# Altium schematic symbol library WCAP-CSGP.SchLib: 1002 symbols (part 9 of 21)
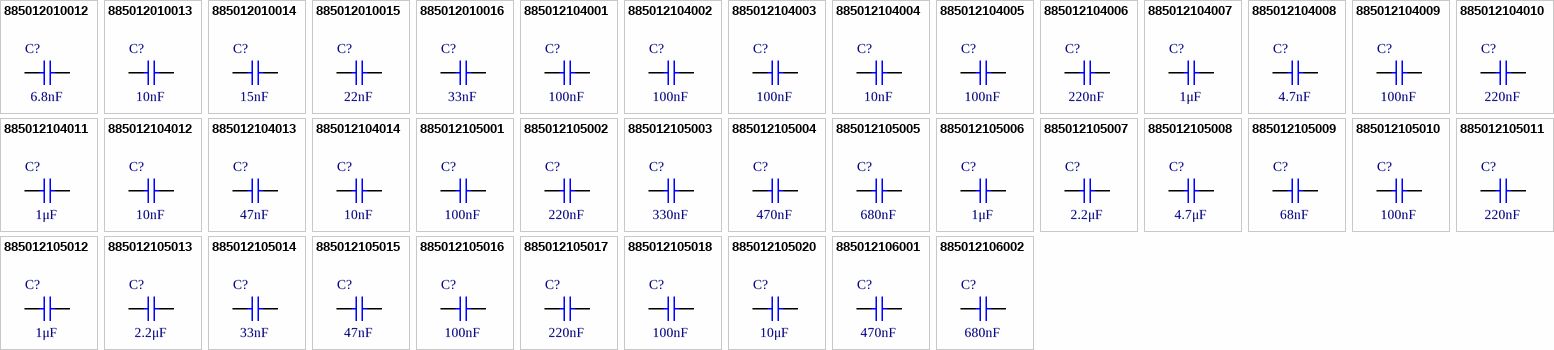
[diagram p33: symbols 885012010012 to 885012106002]

## 885012106002
designator C?, comment 680nF
WCAP-CSGP Multilayer Ceramic Chip Capacitor, General Purpose, size 0603, X5R, 680nF, 6.3V; Manufacturer Part Number: 885012106002; Manufacturer: Wurth Elektronik; Case/Size Code: 0603; Capacitance Tolerance: +/-20%; Dissipation Factor: 10%; Insulation Resistance: 0.2GΩ; Technical Reference: X5R0603684M6R3DFCT10000; Category: Multilayer Ceramic Chip Capacitors; Match Code: WCAP-CSGP; ComponentLink1Description: Website Link; ComponentLink1URL: https://www.we-online.com/redexpert/article/885012106002?ad; ComponentLink2Description: Datasheet Link; ComponentLink2URL: https://www.we-online.com/redexpert/spec/885012106002?ad; Mount: Surface Mount; Min Operating Temperature: -55°C; Max Operating Temperature: 85°C; Packaging: Tape and Reel; Length: 1.6mm; Width: 0.8mm; Height: 0.8mm; Capacitance: 680nF; Ceramic Type: X5R; Rated Voltage (DC): 6.3V
footprint WCAP-CSGP_0603_L1.6W0.8H0.8_Reflow
footprint WCAP-CSGP_0603_L1.6W0.8H0.8_Wave
simulation model 0603_885012106002_680nF
pins: 1, 2

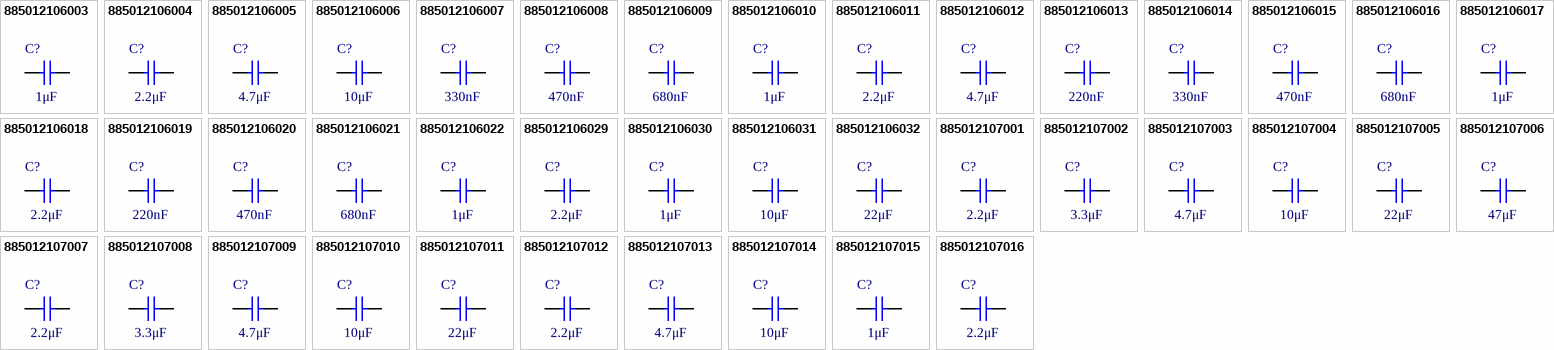
[diagram p10: symbols 885012106003 to 885012107016]

## 885012106003
designator C?, comment 1μF
WCAP-CSGP Multilayer Ceramic Chip Capacitor, General Purpose, size 0603, X5R, 1μF, 6.3V; Manufacturer Part Number: 885012106003; Manufacturer: Wurth Elektronik; Case/Size Code: 0603; Capacitance Tolerance: +/-20%; Dissipation Factor: 10%; Insulation Resistance: 0.1GΩ; Technical Reference: X5R0603105M6R3DFCT10000; Category: Multilayer Ceramic Chip Capacitors; Match Code: WCAP-CSGP; ComponentLink1Description: Website Link; ComponentLink1URL: https://www.we-online.com/redexpert/article/885012106003?ad; ComponentLink2Description: Datasheet Link; ComponentLink2URL: https://www.we-online.com/redexpert/spec/885012106003?ad; Mount: Surface Mount; Min Operating Temperature: -55°C; Max Operating Temperature: 85°C; Packaging: Tape and Reel; Length: 1.6mm; Width: 0.8mm; Height: 0.8mm; Capacitance: 1μF; Ceramic Type: X5R; Rated Voltage (DC): 6.3V
footprint WCAP-CSGP_0603_L1.6W0.8H0.8_Reflow
footprint WCAP-CSGP_0603_L1.6W0.8H0.8_Wave
simulation model 0603_885012106003_1uF
pins: 1, 2

## 885012106004
designator C?, comment 2.2μF
WCAP-CSGP Multilayer Ceramic Chip Capacitor, General Purpose, size 0603, X5R, 2.2μF, 6.3V; Manufacturer Part Number: 885012106004; Manufacturer: Wurth Elektronik; Case/Size Code: 0603; Capacitance Tolerance: +/-20%; Dissipation Factor: 10%; Insulation Resistance: 0.05GΩ; Technical Reference: X5R0603225M6R3DFCT10000; Category: Multilayer Ceramic Chip Capacitors; Match Code: WCAP-CSGP; ComponentLink1Description: Website Link; ComponentLink1URL: https://www.we-online.com/redexpert/article/885012106004?ad; ComponentLink2Description: Datasheet Link; ComponentLink2URL: https://www.we-online.com/redexpert/spec/885012106004?ad; Mount: Surface Mount; Min Operating Temperature: -55°C; Max Operating Temperature: 85°C; Packaging: Tape and Reel; Length: 1.6mm; Width: 0.8mm; Height: 0.8mm; Capacitance: 2.2μF; Ceramic Type: X5R; Rated Voltage (DC): 6.3V
footprint WCAP-CSGP_0603_L1.6W0.8H0.8_Reflow
footprint WCAP-CSGP_0603_L1.6W0.8H0.8_Wave
simulation model 0603_885012106004_2.2uF
pins: 1, 2

## 885012106005
designator C?, comment 4.7μF
WCAP-CSGP Multilayer Ceramic Chip Capacitor, General Purpose, size 0603, X5R, 4.7μF, 6.3V; Manufacturer Part Number: 885012106005; Manufacturer: Wurth Elektronik; Case/Size Code: 0603; Capacitance Tolerance: +/-20%; Dissipation Factor: 10%; Insulation Resistance: 0.02GΩ; Technical Reference: X5R0603475M6R3DFCT10000; Category: Multilayer Ceramic Chip Capacitors; Match Code: WCAP-CSGP; ComponentLink1Description: Website Link; ComponentLink1URL: https://www.we-online.com/redexpert/article/885012106005?ad; ComponentLink2Description: Datasheet Link; ComponentLink2URL: https://www.we-online.com/redexpert/spec/885012106005?ad; Mount: Surface Mount; Min Operating Temperature: -55°C; Max Operating Temperature: 85°C; Packaging: Tape and Reel; Length: 1.6mm; Width: 0.8mm; Height: 0.8mm; Capacitance: 4.7μF; Ceramic Type: X5R; Rated Voltage (DC): 6.3V
footprint WCAP-CSGP_0603_L1.6W0.8H0.8_Reflow
footprint WCAP-CSGP_0603_L1.6W0.8H0.8_Wave
simulation model 0603_885012106005_4.7uF
pins: 1, 2

## 885012106006
designator C?, comment 10μF
WCAP-CSGP Multilayer Ceramic Chip Capacitor, General Purpose, size 0603, X5R, 10μF, 6.3V; Manufacturer Part Number: 885012106006; Manufacturer: Wurth Elektronik; Case/Size Code: 0603; Capacitance Tolerance: +/-20%; Dissipation Factor: 15%; Insulation Resistance: 0.005GΩ; Technical Reference: X5R0603106M6R3DFCT10000; Category: Multilayer Ceramic Chip Capacitors; Match Code: WCAP-CSGP; ComponentLink1Description: Website Link; ComponentLink1URL: https://www.we-online.com/redexpert/article/885012106006?ad; ComponentLink2Description: Datasheet Link; ComponentLink2URL: https://www.we-online.com/redexpert/spec/885012106006?ad; Mount: Surface Mount; Min Operating Temperature: -55°C; Max Operating Temperature: 85°C; Packaging: Tape and Reel; Length: 1.6mm; Width: 0.8mm; Height: 0.8mm; Capacitance: 10μF; Ceramic Type: X5R; Rated Voltage (DC): 6.3V
footprint WCAP-CSGP_0603_L1.6W0.8H0.8_Reflow
footprint WCAP-CSGP_0603_L1.6W0.8H0.8_Wave
simulation model 0603_885012106006_10uF
pins: 1, 2

## 885012106007
designator C?, comment 330nF
WCAP-CSGP Multilayer Ceramic Chip Capacitor, General Purpose, size 0603, X5R, 330nF, 10V; Manufacturer Part Number: 885012106007; Manufacturer: Wurth Elektronik; Case/Size Code: 0603; Capacitance Tolerance: +/-20%; Dissipation Factor: 10%; Insulation Resistance: 1.5GΩ; Technical Reference: X5R0603334M010DFCT10000; Category: Multilayer Ceramic Chip Capacitors; Match Code: WCAP-CSGP; ComponentLink1Description: Website Link; ComponentLink1URL: https://www.we-online.com/redexpert/article/885012106007?ad; ComponentLink2Description: Datasheet Link; ComponentLink2URL: https://www.we-online.com/redexpert/spec/885012106007?ad; Mount: Surface Mount; Min Operating Temperature: -55°C; Max Operating Temperature: 85°C; Packaging: Tape and Reel; Length: 1.6mm; Width: 0.8mm; Height: 0.8mm; Capacitance: 330nF; Ceramic Type: X5R; Rated Voltage (DC): 10V
footprint WCAP-CSGP_0603_L1.6W0.8H0.8_Reflow
footprint WCAP-CSGP_0603_L1.6W0.8H0.8_Wave
simulation model 0603_885012106007_330nF
pins: 1, 2

## 885012106008
designator C?, comment 470nF
WCAP-CSGP Multilayer Ceramic Chip Capacitor, General Purpose, size 0603, X5R, 470nF, 10V; Manufacturer Part Number: 885012106008; Manufacturer: Wurth Elektronik; Case/Size Code: 0603; Capacitance Tolerance: +/-20%; Dissipation Factor: 10%; Insulation Resistance: 0.2GΩ; Technical Reference: X5R0603474M010DFCT10000; Category: Multilayer Ceramic Chip Capacitors; Match Code: WCAP-CSGP; ComponentLink1Description: Website Link; ComponentLink1URL: https://www.we-online.com/redexpert/article/885012106008?ad; ComponentLink2Description: Datasheet Link; ComponentLink2URL: https://www.we-online.com/redexpert/spec/885012106008?ad; Mount: Surface Mount; Min Operating Temperature: -55°C; Max Operating Temperature: 85°C; Packaging: Tape and Reel; Length: 1.6mm; Width: 0.8mm; Height: 0.8mm; Capacitance: 470nF; Ceramic Type: X5R; Rated Voltage (DC): 10V
footprint WCAP-CSGP_0603_L1.6W0.8H0.8_Reflow
footprint WCAP-CSGP_0603_L1.6W0.8H0.8_Wave
simulation model 0603_885012106008_470nF
pins: 1, 2

## 885012106009
designator C?, comment 680nF
WCAP-CSGP Multilayer Ceramic Chip Capacitor, General Purpose, size 0603, X5R, 680nF, 10V; Manufacturer Part Number: 885012106009; Manufacturer: Wurth Elektronik; Case/Size Code: 0603; Capacitance Tolerance: +/-20%; Dissipation Factor: 10%; Insulation Resistance: 0.2GΩ; Technical Reference: X5R0603684M010DFCT10000; Category: Multilayer Ceramic Chip Capacitors; Match Code: WCAP-CSGP; ComponentLink1Description: Website Link; ComponentLink1URL: https://www.we-online.com/redexpert/article/885012106009?ad; ComponentLink2Description: Datasheet Link; ComponentLink2URL: https://www.we-online.com/redexpert/spec/885012106009?ad; Mount: Surface Mount; Min Operating Temperature: -55°C; Max Operating Temperature: 85°C; Packaging: Tape and Reel; Length: 1.6mm; Width: 0.8mm; Height: 0.8mm; Capacitance: 680nF; Ceramic Type: X5R; Rated Voltage (DC): 10V
footprint WCAP-CSGP_0603_L1.6W0.8H0.8_Reflow
footprint WCAP-CSGP_0603_L1.6W0.8H0.8_Wave
simulation model 0603_885012106009_680nF
pins: 1, 2

## 885012106010
designator C?, comment 1μF
WCAP-CSGP Multilayer Ceramic Chip Capacitor, General Purpose, size 0603, X5R, 1μF, 10V; Manufacturer Part Number: 885012106010; Manufacturer: Wurth Elektronik; Case/Size Code: 0603; Capacitance Tolerance: +/-20%; Dissipation Factor: 10%; Insulation Resistance: 0.1GΩ; Technical Reference: X5R0603105M010DFCT10000; Category: Multilayer Ceramic Chip Capacitors; Match Code: WCAP-CSGP; ComponentLink1Description: Website Link; ComponentLink1URL: https://www.we-online.com/redexpert/article/885012106010?ad; ComponentLink2Description: Datasheet Link; ComponentLink2URL: https://www.we-online.com/redexpert/spec/885012106010?ad; Mount: Surface Mount; Min Operating Temperature: -55°C; Max Operating Temperature: 85°C; Packaging: Tape and Reel; Length: 1.6mm; Width: 0.8mm; Height: 0.8mm; Capacitance: 1μF; Ceramic Type: X5R; Rated Voltage (DC): 10V
footprint WCAP-CSGP_0603_L1.6W0.8H0.8_Reflow
footprint WCAP-CSGP_0603_L1.6W0.8H0.8_Wave
simulation model 0603_885012106010_1uF
pins: 1, 2

## 885012106011
designator C?, comment 2.2μF
WCAP-CSGP Multilayer Ceramic Chip Capacitor, General Purpose, size 0603, X5R, 2.2μF, 10V; Manufacturer Part Number: 885012106011; Manufacturer: Wurth Elektronik; Case/Size Code: 0603; Capacitance Tolerance: +/-20%; Dissipation Factor: 10%; Insulation Resistance: 0.05GΩ; Technical Reference: X5R0603225M010DFCT10000; Category: Multilayer Ceramic Chip Capacitors; Match Code: WCAP-CSGP; ComponentLink1Description: Website Link; ComponentLink1URL: https://www.we-online.com/redexpert/article/885012106011?ad; ComponentLink2Description: Datasheet Link; ComponentLink2URL: https://www.we-online.com/redexpert/spec/885012106011?ad; Mount: Surface Mount; Min Operating Temperature: -55°C; Max Operating Temperature: 85°C; Packaging: Tape and Reel; Length: 1.6mm; Width: 0.8mm; Height: 0.8mm; Capacitance: 2.2μF; Ceramic Type: X5R; Rated Voltage (DC): 10V
footprint WCAP-CSGP_0603_L1.6W0.8H0.8_Reflow
footprint WCAP-CSGP_0603_L1.6W0.8H0.8_Wave
simulation model 0603_885012106011_2.2uF
pins: 1, 2

## 885012106012
designator C?, comment 4.7μF
WCAP-CSGP Multilayer Ceramic Chip Capacitor, General Purpose, size 0603, X5R, 4.7μF, 10V; Manufacturer Part Number: 885012106012; Manufacturer: Wurth Elektronik; Case/Size Code: 0603; Capacitance Tolerance: +/-20%; Dissipation Factor: 10%; Insulation Resistance: 0.02GΩ; Technical Reference: X5R0603475M010DFCT10000; Category: Multilayer Ceramic Chip Capacitors; Match Code: WCAP-CSGP; ComponentLink1Description: Website Link; ComponentLink1URL: https://www.we-online.com/redexpert/article/885012106012?ad; ComponentLink2Description: Datasheet Link; ComponentLink2URL: https://www.we-online.com/redexpert/spec/885012106012?ad; Mount: Surface Mount; Min Operating Temperature: -55°C; Max Operating Temperature: 85°C; Packaging: Tape and Reel; Length: 1.6mm; Width: 0.8mm; Height: 0.8mm; Capacitance: 4.7μF; Ceramic Type: X5R; Rated Voltage (DC): 10V
footprint WCAP-CSGP_0603_L1.6W0.8H0.8_Reflow
footprint WCAP-CSGP_0603_L1.6W0.8H0.8_Wave
simulation model 0603_885012106012_4.7uF
pins: 1, 2

## 885012106013
designator C?, comment 220nF
WCAP-CSGP Multilayer Ceramic Chip Capacitor, General Purpose, size 0603, X5R, 220nF, 16V; Manufacturer Part Number: 885012106013; Manufacturer: Wurth Elektronik; Case/Size Code: 0603; Capacitance Tolerance: +/-20%; Dissipation Factor: 5%; Insulation Resistance: 2.3GΩ; Technical Reference: X5R0603224M016DFCT10000; Category: Multilayer Ceramic Chip Capacitors; Match Code: WCAP-CSGP; ComponentLink1Description: Website Link; ComponentLink1URL: https://www.we-online.com/redexpert/article/885012106013?ad; ComponentLink2Description: Datasheet Link; ComponentLink2URL: https://www.we-online.com/redexpert/spec/885012106013?ad; Mount: Surface Mount; Min Operating Temperature: -55°C; Max Operating Temperature: 85°C; Packaging: Tape and Reel; Length: 1.6mm; Width: 0.8mm; Height: 0.8mm; Capacitance: 220nF; Ceramic Type: X5R; Rated Voltage (DC): 16V
footprint WCAP-CSGP_0603_L1.6W0.8H0.8_Reflow
footprint WCAP-CSGP_0603_L1.6W0.8H0.8_Wave
simulation model 0603_885012106013_220nF
pins: 1, 2

## 885012106014
designator C?, comment 330nF
WCAP-CSGP Multilayer Ceramic Chip Capacitor, General Purpose, size 0603, X5R, 330nF, 16V; Manufacturer Part Number: 885012106014; Manufacturer: Wurth Elektronik; Case/Size Code: 0603; Capacitance Tolerance: +/-20%; Dissipation Factor: 5%; Insulation Resistance: 1.5GΩ; Technical Reference: X5R0603334M016DFCT10000; Category: Multilayer Ceramic Chip Capacitors; Match Code: WCAP-CSGP; ComponentLink1Description: Website Link; ComponentLink1URL: https://www.we-online.com/redexpert/article/885012106014?ad; ComponentLink2Description: Datasheet Link; ComponentLink2URL: https://www.we-online.com/redexpert/spec/885012106014?ad; Mount: Surface Mount; Min Operating Temperature: -55°C; Max Operating Temperature: 85°C; Packaging: Tape and Reel; Length: 1.6mm; Width: 0.8mm; Height: 0.8mm; Capacitance: 330nF; Ceramic Type: X5R; Rated Voltage (DC): 16V
footprint WCAP-CSGP_0603_L1.6W0.8H0.8_Reflow
footprint WCAP-CSGP_0603_L1.6W0.8H0.8_Wave
simulation model 0603_885012106014_330nF
pins: 1, 2

## 885012106015
designator C?, comment 470nF
WCAP-CSGP Multilayer Ceramic Chip Capacitor, General Purpose, size 0603, X5R, 470nF, 16V; Manufacturer Part Number: 885012106015; Manufacturer: Wurth Elektronik; Case/Size Code: 0603; Capacitance Tolerance: +/-20%; Dissipation Factor: 5%; Insulation Resistance: 1.1GΩ; Technical Reference: X5R0603474M016DFCT10000; Category: Multilayer Ceramic Chip Capacitors; Match Code: WCAP-CSGP; ComponentLink1Description: Website Link; ComponentLink1URL: https://www.we-online.com/redexpert/article/885012106015?ad; ComponentLink2Description: Datasheet Link; ComponentLink2URL: https://www.we-online.com/redexpert/spec/885012106015?ad; Mount: Surface Mount; Min Operating Temperature: -55°C; Max Operating Temperature: 85°C; Packaging: Tape and Reel; Length: 1.6mm; Width: 0.8mm; Height: 0.8mm; Capacitance: 470nF; Ceramic Type: X5R; Rated Voltage (DC): 16V
footprint WCAP-CSGP_0603_L1.6W0.8H0.8_Reflow
footprint WCAP-CSGP_0603_L1.6W0.8H0.8_Wave
simulation model 0603_885012106015_470nF
pins: 1, 2

## 885012106016
designator C?, comment 680nF
WCAP-CSGP Multilayer Ceramic Chip Capacitor, General Purpose, size 0603, X5R, 680nF, 16V; Manufacturer Part Number: 885012106016; Manufacturer: Wurth Elektronik; Case/Size Code: 0603; Capacitance Tolerance: +/-20%; Dissipation Factor: 10%; Insulation Resistance: 0.7GΩ; Technical Reference: X5R0603684M016DFCT10000; Category: Multilayer Ceramic Chip Capacitors; Match Code: WCAP-CSGP; ComponentLink1Description: Website Link; ComponentLink1URL: https://www.we-online.com/redexpert/article/885012106016?ad; ComponentLink2Description: Datasheet Link; ComponentLink2URL: https://www.we-online.com/redexpert/spec/885012106016?ad; Mount: Surface Mount; Min Operating Temperature: -55°C; Max Operating Temperature: 85°C; Packaging: Tape and Reel; Length: 1.6mm; Width: 0.8mm; Height: 0.8mm; Capacitance: 680nF; Ceramic Type: X5R; Rated Voltage (DC): 16V
footprint WCAP-CSGP_0603_L1.6W0.8H0.8_Reflow
footprint WCAP-CSGP_0603_L1.6W0.8H0.8_Wave
simulation model 0603_885012106016_680nF
pins: 1, 2

## 885012106017
designator C?, comment 1μF
WCAP-CSGP Multilayer Ceramic Chip Capacitor, General Purpose, size 0603, X5R, 1μF, 16V; Manufacturer Part Number: 885012106017; Manufacturer: Wurth Elektronik; Case/Size Code: 0603; Capacitance Tolerance: +/-20%; Dissipation Factor: 10%; Insulation Resistance: 0.1GΩ; Technical Reference: X5R0603105M016DFCT10000; Category: Multilayer Ceramic Chip Capacitors; Match Code: WCAP-CSGP; ComponentLink1Description: Website Link; ComponentLink1URL: https://www.we-online.com/redexpert/article/885012106017?ad; ComponentLink2Description: Datasheet Link; ComponentLink2URL: https://www.we-online.com/redexpert/spec/885012106017?ad; Mount: Surface Mount; Min Operating Temperature: -55°C; Max Operating Temperature: 85°C; Packaging: Tape and Reel; Length: 1.6mm; Width: 0.8mm; Height: 0.8mm; Capacitance: 1μF; Ceramic Type: X5R; Rated Voltage (DC): 16V
footprint WCAP-CSGP_0603_L1.6W0.8H0.8_Reflow
footprint WCAP-CSGP_0603_L1.6W0.8H0.8_Wave
simulation model 0603_885012106017_1uF
pins: 1, 2

## 885012106018
designator C?, comment 2.2μF
WCAP-CSGP Multilayer Ceramic Chip Capacitor, General Purpose, size 0603, X5R, 2.2μF, 16V; Manufacturer Part Number: 885012106018; Manufacturer: Wurth Elektronik; Case/Size Code: 0603; Capacitance Tolerance: +/-20%; Dissipation Factor: 10%; Insulation Resistance: 0.05GΩ; Technical Reference: X5R0603225M016DFCT10000; Category: Multilayer Ceramic Chip Capacitors; Match Code: WCAP-CSGP; ComponentLink1Description: Website Link; ComponentLink1URL: https://www.we-online.com/redexpert/article/885012106018?ad; ComponentLink2Description: Datasheet Link; ComponentLink2URL: https://www.we-online.com/redexpert/spec/885012106018?ad; Mount: Surface Mount; Min Operating Temperature: -55°C; Max Operating Temperature: 85°C; Packaging: Tape and Reel; Length: 1.6mm; Width: 0.8mm; Height: 0.8mm; Capacitance: 2.2μF; Ceramic Type: X5R; Rated Voltage (DC): 16V
footprint WCAP-CSGP_0603_L1.6W0.8H0.8_Reflow
footprint WCAP-CSGP_0603_L1.6W0.8H0.8_Wave
simulation model 0603_885012106018_2.2uF
pins: 1, 2

## 885012106019
designator C?, comment 220nF
WCAP-CSGP Multilayer Ceramic Chip Capacitor, General Purpose, size 0603, X5R, 220nF, 25V; Manufacturer Part Number: 885012106019; Manufacturer: Wurth Elektronik; Case/Size Code: 0603; Capacitance Tolerance: +/-20%; Dissipation Factor: 3.5%; Insulation Resistance: 2.3GΩ; Technical Reference: X5R0603224M025DFCT10000; Category: Multilayer Ceramic Chip Capacitors; Match Code: WCAP-CSGP; ComponentLink1Description: Website Link; ComponentLink1URL: https://www.we-online.com/redexpert/article/885012106019?ad; ComponentLink2Description: Datasheet Link; ComponentLink2URL: https://www.we-online.com/redexpert/spec/885012106019?ad; Mount: Surface Mount; Min Operating Temperature: -55°C; Max Operating Temperature: 85°C; Packaging: Tape and Reel; Length: 1.6mm; Width: 0.8mm; Height: 0.8mm; Capacitance: 220nF; Ceramic Type: X5R; Rated Voltage (DC): 25V
footprint WCAP-CSGP_0603_L1.6W0.8H0.8_Reflow
footprint WCAP-CSGP_0603_L1.6W0.8H0.8_Wave
simulation model 0603_885012106019_220nF
pins: 1, 2

## 885012106020
designator C?, comment 470nF
WCAP-CSGP Multilayer Ceramic Chip Capacitor, General Purpose, size 0603, X5R, 470nF, 25V; Manufacturer Part Number: 885012106020; Manufacturer: Wurth Elektronik; Case/Size Code: 0603; Capacitance Tolerance: +/-20%; Dissipation Factor: 10%; Insulation Resistance: 1.1GΩ; Technical Reference: X5R0603474M025DFCT10000; Category: Multilayer Ceramic Chip Capacitors; Match Code: WCAP-CSGP; ComponentLink1Description: Website Link; ComponentLink1URL: https://www.we-online.com/redexpert/article/885012106020?ad; ComponentLink2Description: Datasheet Link; ComponentLink2URL: https://www.we-online.com/redexpert/spec/885012106020?ad; Mount: Surface Mount; Min Operating Temperature: -55°C; Max Operating Temperature: 85°C; Packaging: Tape and Reel; Length: 1.6mm; Width: 0.8mm; Height: 0.8mm; Capacitance: 470nF; Ceramic Type: X5R; Rated Voltage (DC): 25V
footprint WCAP-CSGP_0603_L1.6W0.8H0.8_Reflow
footprint WCAP-CSGP_0603_L1.6W0.8H0.8_Wave
simulation model 0603_885012106020_470nF
pins: 1, 2

## 885012106021
designator C?, comment 680nF
WCAP-CSGP Multilayer Ceramic Chip Capacitor, General Purpose, size 0603, X5R, 680nF, 25V; Manufacturer Part Number: 885012106021; Manufacturer: Wurth Elektronik; Case/Size Code: 0603; Capacitance Tolerance: +/-20%; Dissipation Factor: 10%; Insulation Resistance: 0.7GΩ; Technical Reference: X5R0603684M025DFCT10000; Category: Multilayer Ceramic Chip Capacitors; Match Code: WCAP-CSGP; ComponentLink1Description: Website Link; ComponentLink1URL: https://www.we-online.com/redexpert/article/885012106021?ad; ComponentLink2Description: Datasheet Link; ComponentLink2URL: https://www.we-online.com/redexpert/spec/885012106021?ad; Mount: Surface Mount; Min Operating Temperature: -55°C; Max Operating Temperature: 85°C; Packaging: Tape and Reel; Length: 1.6mm; Width: 0.8mm; Height: 0.8mm; Capacitance: 680nF; Ceramic Type: X5R; Rated Voltage (DC): 25V
footprint WCAP-CSGP_0603_L1.6W0.8H0.8_Reflow
footprint WCAP-CSGP_0603_L1.6W0.8H0.8_Wave
simulation model 0603_885012106021_680nF
pins: 1, 2

## 885012106022
designator C?, comment 1μF
WCAP-CSGP Multilayer Ceramic Chip Capacitor, General Purpose, size 0603, X5R, 1μF, 25V; Manufacturer Part Number: 885012106022; Manufacturer: Wurth Elektronik; Case/Size Code: 0603; Capacitance Tolerance: +/-20%; Dissipation Factor: 10%; Insulation Resistance: 0.5GΩ; Technical Reference: X5R0603105M025DFCT10000; Category: Multilayer Ceramic Chip Capacitors; Match Code: WCAP-CSGP; ComponentLink1Description: Website Link; ComponentLink1URL: https://www.we-online.com/redexpert/article/885012106022?ad; ComponentLink2Description: Datasheet Link; ComponentLink2URL: https://www.we-online.com/redexpert/spec/885012106022?ad; Mount: Surface Mount; Min Operating Temperature: -55°C; Max Operating Temperature: 85°C; Packaging: Tape and Reel; Length: 1.6mm; Width: 0.8mm; Height: 0.8mm; Capacitance: 1μF; Ceramic Type: X5R; Rated Voltage (DC): 25V
footprint WCAP-CSGP_0603_L1.6W0.8H0.8_Reflow
footprint WCAP-CSGP_0603_L1.6W0.8H0.8_Wave
simulation model 0603_885012106022_1uF
pins: 1, 2

## 885012106029
designator C?, comment 2.2μF
WCAP-CSGP Multilayer Ceramic Chip Capacitor, General Purpose, size 0603, X5R, 2.2μF, 16V; Manufacturer Part Number: 885012106029; Manufacturer: Wurth Elektronik; Case/Size Code: 0603; Capacitance Tolerance: +/-10%; Dissipation Factor: 10%; Insulation Resistance: 0.05GΩ; Technical Reference: X5R0603225K016DFCT10000; Category: Multilayer Ceramic Chip Capacitors; Match Code: WCAP-CSGP; ComponentLink1Description: Website Link; ComponentLink1URL: https://www.we-online.com/redexpert/article/885012106029?ad; ComponentLink2Description: Datasheet Link; ComponentLink2URL: https://www.we-online.com/redexpert/spec/885012106029?ad; Mount: Surface Mount; Min Operating Temperature: -55°C; Max Operating Temperature: 85°C; Packaging: Tape and Reel; Length: 1.6mm; Width: 0.8mm; Height: 0.8mm; Capacitance: 2.2μF; Ceramic Type: X5R; Rated Voltage (DC): 16V
footprint WCAP-CSGP_0603_L1.6W0.8H0.8_Reflow
footprint WCAP-CSGP_0603_L1.6W0.8H0.8_Wave
simulation model 0603_885012106029_2.2uF
pins: 1, 2

## 885012106030
designator C?, comment 1μF
WCAP-CSGP Multilayer Ceramic Chip Capacitor, General Purpose, size 0603, X5R, 1μF, 25V; Manufacturer Part Number: 885012106030; Manufacturer: Wurth Elektronik; Case/Size Code: 0603; Capacitance Tolerance: +/-10%; Dissipation Factor: 10%; Insulation Resistance: 0.5GΩ; Technical Reference: X5R0603105K025DFCT10000; Category: Multilayer Ceramic Chip Capacitors; Match Code: WCAP-CSGP; ComponentLink1Description: Website Link; ComponentLink1URL: https://www.we-online.com/redexpert/article/885012106030?ad; ComponentLink2Description: Datasheet Link; ComponentLink2URL: https://www.we-online.com/redexpert/spec/885012106030?ad; Mount: Surface Mount; Min Operating Temperature: -55°C; Max Operating Temperature: 85°C; Packaging: Tape and Reel; Length: 1.6mm; Width: 0.8mm; Height: 0.8mm; Capacitance: 1μF; Ceramic Type: X5R; Rated Voltage (DC): 25V
footprint WCAP-CSGP_0603_L1.6W0.8H0.8_Reflow
footprint WCAP-CSGP_0603_L1.6W0.8H0.8_Wave
simulation model 0603_885012106030_1uF
pins: 1, 2

## 885012106031
designator C?, comment 10μF
WCAP-CSGP Multilayer Ceramic Chip Capacitor, General Purpose, size 0603, X5R, 10μF, 25V; Manufacturer Part Number: 885012106031; Manufacturer: Wurth Elektronik; Case/Size Code: 0603; Capacitance Tolerance: +/20%; Dissipation Factor: 20%; Insulation Resistance: 0.01GΩ; Technical Reference: X5R0603106M025DFCT10000; Category: Multilayer Ceramic Chip Capacitors; Match Code: WCAP-CSGP; ComponentLink1Description: Website Link; ComponentLink1URL: https://www.we-online.com/redexpert/article/885012106031?ad; ComponentLink2Description: Datasheet Link; ComponentLink2URL: https://www.we-online.com/redexpert/spec/885012106031?ad; Mount: Surface Mount; Min Operating Temperature: -55°C; Max Operating Temperature: 85°C; Packaging: Tape and Reel; Length: 1.6mm; Width: 0.8mm; Height: 0.8mm; Capacitance: 10μF; Ceramic Type: X5R; Rated Voltage (DC): 25V
footprint WCAP-CSGP_0603_L1.6W0.8H0.8_Reflow
footprint WCAP-CSGP_0603_L1.6W0.8H0.8_Wave
simulation model 0603_885012106031_10uF
pins: 1, 2

## 885012106032
designator C?, comment 22μF
WCAP-CSGP Multilayer Ceramic Chip Capacitor, General Purpose, size 0603, X5R Class II, 22μF, 10V; Manufacturer Part Number: 885012106032; Manufacturer: Wurth Elektronik; Case/Size Code: 0603; Capacitance Tolerance: +/-20%; Dissipation Factor: 20%; Insulation Resistance: 0.002GΩ; Technical Reference: X5R0603226M010DFCT10000; Category: Multilayer Ceramic Chip Capacitors; Match Code: WCAP-CSGP; ComponentLink1Description: Website Link; ComponentLink1URL: https://www.we-online.com/redexpert/article/885012106032?ad; ComponentLink2Description: Datasheet Link; ComponentLink2URL: https://www.we-online.com/redexpert/spec/885012106032?ad; Mount: Surface Mount; Min Operating Temperature: -55°C; Max Operating Temperature: 85°C; Packaging: Tape and Reel; Length: 1.6mm; Width: 0.8mm; Height: 0.8mm; Capacitance: 22μF; Ceramic Type: X5R Class II; Rated Voltage (DC): 10V
footprint WCAP-CSGP_0603_L1.6W0.8H0.8_Reflow
footprint WCAP-CSGP_0603_L1.6W0.8H0.8_Wave
pins: 1, 2

## 885012107001
designator C?, comment 2.2μF
WCAP-CSGP Multilayer Ceramic Chip Capacitor, General Purpose, size 0805, X5R, 2.2μF, 6.3V; Manufacturer Part Number: 885012107001; Manufacturer: Wurth Elektronik; Case/Size Code: 0805; Capacitance Tolerance: +/-20%; Dissipation Factor: 10%; Insulation Resistance: 0.05GΩ; Technical Reference: X5R0805225M6R3DFCT10000; Category: Multilayer Ceramic Chip Capacitors; Match Code: WCAP-CSGP; ComponentLink1Description: Website Link; ComponentLink1URL: https://www.we-online.com/redexpert/article/885012107001?ad; ComponentLink2Description: Datasheet Link; ComponentLink2URL: https://www.we-online.com/redexpert/spec/885012107001?ad; Mount: Surface Mount; Min Operating Temperature: -55°C; Max Operating Temperature: 85°C; Packaging: Tape and Reel; Length: 2mm; Width: 1.25mm; Height: 1.25mm; Capacitance: 2.2μF; Ceramic Type: X5R; Rated Voltage (DC): 6.3V
footprint WCAP-CSGP_0805_L2W1.25H1.25
simulation model 0805_885012107001_2.2uF
pins: 1, 2

## 885012107002
designator C?, comment 3.3μF
WCAP-CSGP Multilayer Ceramic Chip Capacitor, General Purpose, size 0805, X5R, 3.3μF, 6.3V; Manufacturer Part Number: 885012107002; Manufacturer: Wurth Elektronik; Case/Size Code: 0805; Capacitance Tolerance: +/-20%; Dissipation Factor: 10%; Insulation Resistance: 0.03GΩ; Technical Reference: X5R0805335M6R3DFCT10000; Category: Multilayer Ceramic Chip Capacitors; Match Code: WCAP-CSGP; ComponentLink1Description: Website Link; ComponentLink1URL: https://www.we-online.com/redexpert/article/885012107002?ad; ComponentLink2Description: Datasheet Link; ComponentLink2URL: https://www.we-online.com/redexpert/spec/885012107002?ad; Mount: Surface Mount; Min Operating Temperature: -55°C; Max Operating Temperature: 85°C; Packaging: Tape and Reel; Length: 2mm; Width: 1.25mm; Height: 1.25mm; Capacitance: 3.3μF; Ceramic Type: X5R; Rated Voltage (DC): 6.3V
footprint WCAP-CSGP_0805_L2W1.25H1.25
simulation model 0805_885012107002_3.3uF
pins: 1, 2

## 885012107003
designator C?, comment 4.7μF
WCAP-CSGP Multilayer Ceramic Chip Capacitor, General Purpose, size 0805, X5R, 4.7μF, 6.3V; Manufacturer Part Number: 885012107003; Manufacturer: Wurth Elektronik; Case/Size Code: 0805; Capacitance Tolerance: +/-20%; Dissipation Factor: 15%; Insulation Resistance: 0.02GΩ; Technical Reference: X5R0805475M6R3DFCT10000; Category: Multilayer Ceramic Chip Capacitors; Match Code: WCAP-CSGP; ComponentLink1Description: Website Link; ComponentLink1URL: https://www.we-online.com/redexpert/article/885012107003?ad; ComponentLink2Description: Datasheet Link; ComponentLink2URL: https://www.we-online.com/redexpert/spec/885012107003?ad; Mount: Surface Mount; Min Operating Temperature: -55°C; Max Operating Temperature: 85°C; Packaging: Tape and Reel; Length: 2mm; Width: 1.25mm; Height: 1.25mm; Capacitance: 4.7μF; Ceramic Type: X5R; Rated Voltage (DC): 6.3V
footprint WCAP-CSGP_0805_L2W1.25H1.25
simulation model 0805_885012107003_4.7uF
pins: 1, 2

## 885012107004
designator C?, comment 10μF
WCAP-CSGP Multilayer Ceramic Chip Capacitor, General Purpose, size 0805, X5R, 10μF, 6.3V; Manufacturer Part Number: 885012107004; Manufacturer: Wurth Elektronik; Case/Size Code: 0805; Capacitance Tolerance: +/-20%; Dissipation Factor: 15%; Insulation Resistance: 0.01GΩ; Technical Reference: X5R0805106M6R3DFCT10000; Category: Multilayer Ceramic Chip Capacitors; Match Code: WCAP-CSGP; ComponentLink1Description: Website Link; ComponentLink1URL: https://www.we-online.com/redexpert/article/885012107004?ad; ComponentLink2Description: Datasheet Link; ComponentLink2URL: https://www.we-online.com/redexpert/spec/885012107004?ad; Mount: Surface Mount; Min Operating Temperature: -55°C; Max Operating Temperature: 85°C; Packaging: Tape and Reel; Length: 2mm; Width: 1.25mm; Height: 1.25mm; Capacitance: 10μF; Ceramic Type: X5R; Rated Voltage (DC): 6.3V
footprint WCAP-CSGP_0805_L2W1.25H1.25
simulation model 0805_885012107004_10uF
pins: 1, 2

## 885012107005
designator C?, comment 22μF
WCAP-CSGP Multilayer Ceramic Chip Capacitor, General Purpose, size 0805, X5R, 22μF, 6.3V; Manufacturer Part Number: 885012107005; Manufacturer: Wurth Elektronik; Case/Size Code: 0805; Capacitance Tolerance: +/-20%; Dissipation Factor: 15%; Insulation Resistance: 0.005GΩ; Technical Reference: X5R0805226M6R3DFCT10000; Category: Multilayer Ceramic Chip Capacitors; Match Code: WCAP-CSGP; ComponentLink1Description: Website Link; ComponentLink1URL: https://www.we-online.com/redexpert/article/885012107005?ad; ComponentLink2Description: Datasheet Link; ComponentLink2URL: https://www.we-online.com/redexpert/spec/885012107005?ad; Mount: Surface Mount; Min Operating Temperature: -55°C; Max Operating Temperature: 85°C; Packaging: Tape and Reel; Length: 2mm; Width: 1.25mm; Height: 1.25mm; Capacitance: 22μF; Ceramic Type: X5R; Rated Voltage (DC): 6.3V
footprint WCAP-CSGP_0805_L2W1.25H1.25
simulation model 0805_885012107005_22uF
pins: 1, 2

## 885012107006
designator C?, comment 47μF
WCAP-CSGP Multilayer Ceramic Chip Capacitor, General Purpose, size 0805, X5R, 47μF, 6.3V; Manufacturer Part Number: 885012107006; Manufacturer: Wurth Elektronik; Case/Size Code: 0805; Capacitance Tolerance: +/-20%; Dissipation Factor: 10%; Insulation Resistance: 0.002GΩ; Technical Reference: X5R0805476M6R3DFCT10000; Category: Multilayer Ceramic Chip Capacitors; Match Code: WCAP-CSGP; ComponentLink1Description: Website Link; ComponentLink1URL: https://www.we-online.com/redexpert/article/885012107006?ad; ComponentLink2Description: Datasheet Link; ComponentLink2URL: https://www.we-online.com/redexpert/spec/885012107006?ad; Mount: Surface Mount; Min Operating Temperature: -55°C; Max Operating Temperature: 85°C; Packaging: Tape and Reel; Length: 2mm; Width: 1.25mm; Height: 1.25mm; Capacitance: 47μF; Ceramic Type: X5R; Rated Voltage (DC): 6.3V
footprint WCAP-CSGP_0805_L2W1.25H1.25
simulation model 0805_885012107006_47uF
pins: 1, 2

## 885012107007
designator C?, comment 2.2μF
WCAP-CSGP Multilayer Ceramic Chip Capacitor, General Purpose, size 0805, X5R, 2.2μF, 10V; Manufacturer Part Number: 885012107007; Manufacturer: Wurth Elektronik; Case/Size Code: 0805; Capacitance Tolerance: +/-20%; Dissipation Factor: 10%; Insulation Resistance: 0.05GΩ; Technical Reference: X5R0805225M010DFCT10000; Category: Multilayer Ceramic Chip Capacitors; Match Code: WCAP-CSGP; ComponentLink1Description: Website Link; ComponentLink1URL: https://www.we-online.com/redexpert/article/885012107007?ad; ComponentLink2Description: Datasheet Link; ComponentLink2URL: https://www.we-online.com/redexpert/spec/885012107007?ad; Mount: Surface Mount; Min Operating Temperature: -55°C; Max Operating Temperature: 85°C; Packaging: Tape and Reel; Length: 2mm; Width: 1.25mm; Height: 1.25mm; Capacitance: 2.2μF; Ceramic Type: X5R; Rated Voltage (DC): 10V
footprint WCAP-CSGP_0805_L2W1.25H1.25
simulation model 0805_885012107007_2.2uF
pins: 1, 2

## 885012107008
designator C?, comment 3.3μF
WCAP-CSGP Multilayer Ceramic Chip Capacitor, General Purpose, size 0805, X5R, 3.3μF, 10V; Manufacturer Part Number: 885012107008; Manufacturer: Wurth Elektronik; Case/Size Code: 0805; Capacitance Tolerance: +/-20%; Dissipation Factor: 10%; Insulation Resistance: 0.03GΩ; Technical Reference: X5R0805335M010DFCT10000; Category: Multilayer Ceramic Chip Capacitors; Match Code: WCAP-CSGP; ComponentLink1Description: Website Link; ComponentLink1URL: https://www.we-online.com/redexpert/article/885012107008?ad; ComponentLink2Description: Datasheet Link; ComponentLink2URL: https://www.we-online.com/redexpert/spec/885012107008?ad; Mount: Surface Mount; Min Operating Temperature: -55°C; Max Operating Temperature: 85°C; Packaging: Tape and Reel; Length: 2mm; Width: 1.25mm; Height: 1.25mm; Capacitance: 3.3μF; Ceramic Type: X5R; Rated Voltage (DC): 10V
footprint WCAP-CSGP_0805_L2W1.25H1.25
simulation model 0805_885012107008_3.3uF
pins: 1, 2

## 885012107009
designator C?, comment 4.7μF
WCAP-CSGP Multilayer Ceramic Chip Capacitor, General Purpose, size 0805, X5R, 4.7μF, 10V; Manufacturer Part Number: 885012107009; Manufacturer: Wurth Elektronik; Case/Size Code: 0805; Capacitance Tolerance: +/-20%; Dissipation Factor: 10%; Insulation Resistance: 0.02GΩ; Technical Reference: X5R0805475M010DFCT10000; Category: Multilayer Ceramic Chip Capacitors; Match Code: WCAP-CSGP; ComponentLink1Description: Website Link; ComponentLink1URL: https://www.we-online.com/redexpert/article/885012107009?ad; ComponentLink2Description: Datasheet Link; ComponentLink2URL: https://www.we-online.com/redexpert/spec/885012107009?ad; Mount: Surface Mount; Min Operating Temperature: -55°C; Max Operating Temperature: 85°C; Packaging: Tape and Reel; Length: 2mm; Width: 1.25mm; Height: 1.25mm; Capacitance: 4.7μF; Ceramic Type: X5R; Rated Voltage (DC): 10V
footprint WCAP-CSGP_0805_L2W1.25H1.25
simulation model 0805_885012107009_4.7uF
pins: 1, 2

## 885012107010
designator C?, comment 10μF
WCAP-CSGP Multilayer Ceramic Chip Capacitor, General Purpose, size 0805, X5R, 10μF, 10V; Manufacturer Part Number: 885012107010; Manufacturer: Wurth Elektronik; Case/Size Code: 0805; Capacitance Tolerance: +/-20%; Dissipation Factor: 10%; Insulation Resistance: 0.01GΩ; Technical Reference: X5R0805106M010DFCT10000; Category: Multilayer Ceramic Chip Capacitors; Match Code: WCAP-CSGP; ComponentLink1Description: Website Link; ComponentLink1URL: https://www.we-online.com/redexpert/article/885012107010?ad; ComponentLink2Description: Datasheet Link; ComponentLink2URL: https://www.we-online.com/redexpert/spec/885012107010?ad; Mount: Surface Mount; Min Operating Temperature: -55°C; Max Operating Temperature: 85°C; Packaging: Tape and Reel; Length: 2mm; Width: 1.25mm; Height: 1.25mm; Capacitance: 10μF; Ceramic Type: X5R; Rated Voltage (DC): 10V
footprint WCAP-CSGP_0805_L2W1.25H1.25
simulation model 0805_885012107010_10uF
pins: 1, 2

## 885012107011
designator C?, comment 22μF
WCAP-CSGP Multilayer Ceramic Chip Capacitor, General Purpose, size 0805, X5R, 22μF, 10V; Manufacturer Part Number: 885012107011; Manufacturer: Wurth Elektronik; Case/Size Code: 0805; Capacitance Tolerance: +/-20%; Dissipation Factor: 10%; Insulation Resistance: 0.005GΩ; Technical Reference: X5R0805226M010DFCT10000; Category: Multilayer Ceramic Chip Capacitors; Match Code: WCAP-CSGP; ComponentLink1Description: Website Link; ComponentLink1URL: https://www.we-online.com/redexpert/article/885012107011?ad; ComponentLink2Description: Datasheet Link; ComponentLink2URL: https://www.we-online.com/redexpert/spec/885012107011?ad; Mount: Surface Mount; Min Operating Temperature: -55°C; Max Operating Temperature: 85°C; Packaging: Tape and Reel; Length: 2mm; Width: 1.25mm; Height: 1.25mm; Capacitance: 22μF; Ceramic Type: X5R; Rated Voltage (DC): 10V
footprint WCAP-CSGP_0805_L2W1.25H1.25
simulation model 0805_885012107011_22uF
pins: 1, 2

## 885012107012
designator C?, comment 2.2μF
WCAP-CSGP Multilayer Ceramic Chip Capacitor, General Purpose, size 0805, X5R, 2.2μF, 16V; Manufacturer Part Number: 885012107012; Manufacturer: Wurth Elektronik; Case/Size Code: 0805; Capacitance Tolerance: +/-20%; Dissipation Factor: 10%; Insulation Resistance: 0.05GΩ; Technical Reference: X5R0805225M016DFCT10000; Category: Multilayer Ceramic Chip Capacitors; Match Code: WCAP-CSGP; ComponentLink1Description: Website Link; ComponentLink1URL: https://www.we-online.com/redexpert/article/885012107012?ad; ComponentLink2Description: Datasheet Link; ComponentLink2URL: https://www.we-online.com/redexpert/spec/885012107012?ad; Mount: Surface Mount; Min Operating Temperature: -55°C; Max Operating Temperature: 85°C; Packaging: Tape and Reel; Length: 2mm; Width: 1.25mm; Height: 1.25mm; Capacitance: 2.2μF; Ceramic Type: X5R; Rated Voltage (DC): 16V
footprint WCAP-CSGP_0805_L2W1.25H1.25
simulation model 0805_885012107012_2.2uF
pins: 1, 2

## 885012107013
designator C?, comment 4.7μF
WCAP-CSGP Multilayer Ceramic Chip Capacitor, General Purpose, size 0805, X5R, 4.7μF, 16V; Manufacturer Part Number: 885012107013; Manufacturer: Wurth Elektronik; Case/Size Code: 0805; Capacitance Tolerance: +/-20%; Dissipation Factor: 10%; Insulation Resistance: 0.02GΩ; Technical Reference: X5R0805475M016DFCT10000; Category: Multilayer Ceramic Chip Capacitors; Match Code: WCAP-CSGP; ComponentLink1Description: Website Link; ComponentLink1URL: https://www.we-online.com/redexpert/article/885012107013?ad; ComponentLink2Description: Datasheet Link; ComponentLink2URL: https://www.we-online.com/redexpert/spec/885012107013?ad; Mount: Surface Mount; Min Operating Temperature: -55°C; Max Operating Temperature: 85°C; Packaging: Tape and Reel; Length: 2mm; Width: 1.25mm; Height: 1.25mm; Capacitance: 4.7μF; Ceramic Type: X5R; Rated Voltage (DC): 16V
footprint WCAP-CSGP_0805_L2W1.25H1.25
simulation model 0805_885012107013_4.7uF
pins: 1, 2

## 885012107014
designator C?, comment 10μF
WCAP-CSGP Multilayer Ceramic Chip Capacitor, General Purpose, size 0805, X5R, 10μF, 16V; Manufacturer Part Number: 885012107014; Manufacturer: Wurth Elektronik; Case/Size Code: 0805; Capacitance Tolerance: +/-20%; Dissipation Factor: 10%; Insulation Resistance: 0.01GΩ; Technical Reference: X5R0805106M016DFCT10000; Category: Multilayer Ceramic Chip Capacitors; Match Code: WCAP-CSGP; ComponentLink1Description: Website Link; ComponentLink1URL: https://www.we-online.com/redexpert/article/885012107014?ad; ComponentLink2Description: Datasheet Link; ComponentLink2URL: https://www.we-online.com/redexpert/spec/885012107014?ad; Mount: Surface Mount; Min Operating Temperature: -55°C; Max Operating Temperature: 85°C; Packaging: Tape and Reel; Length: 2mm; Width: 1.25mm; Height: 1.25mm; Capacitance: 10μF; Ceramic Type: X5R; Rated Voltage (DC): 16V
footprint WCAP-CSGP_0805_L2W1.25H1.25
simulation model 0805_885012107014_10uF
pins: 1, 2

## 885012107015
designator C?, comment 1μF
WCAP-CSGP Multilayer Ceramic Chip Capacitor, General Purpose, size 0805, X5R, 1μF, 25V; Manufacturer Part Number: 885012107015; Manufacturer: Wurth Elektronik; Case/Size Code: 0805; Capacitance Tolerance: +/-20%; Dissipation Factor: 5%; Insulation Resistance: 0.5GΩ; Technical Reference: X5R0805105M025DFCT10000; Category: Multilayer Ceramic Chip Capacitors; Match Code: WCAP-CSGP; ComponentLink1Description: Website Link; ComponentLink1URL: https://www.we-online.com/redexpert/article/885012107015?ad; ComponentLink2Description: Datasheet Link; ComponentLink2URL: https://www.we-online.com/redexpert/spec/885012107015?ad; Mount: Surface Mount; Min Operating Temperature: -55°C; Max Operating Temperature: 85°C; Packaging: Tape and Reel; Length: 2mm; Width: 1.25mm; Height: 1.25mm; Capacitance: 1μF; Ceramic Type: X5R; Rated Voltage (DC): 25V
footprint WCAP-CSGP_0805_L2W1.25H1.25
simulation model 0805_885012107015_1uF
pins: 1, 2

## 885012107016
designator C?, comment 2.2μF
WCAP-CSGP Multilayer Ceramic Chip Capacitor, General Purpose, size 0805, X5R, 2.2μF, 25V; Manufacturer Part Number: 885012107016; Manufacturer: Wurth Elektronik; Case/Size Code: 0805; Capacitance Tolerance: +/-20%; Dissipation Factor: 10%; Insulation Resistance: 0.05GΩ; Technical Reference: X5R0805225M025DFCT10000; Category: Multilayer Ceramic Chip Capacitors; Match Code: WCAP-CSGP; ComponentLink1Description: Website Link; ComponentLink1URL: https://www.we-online.com/redexpert/article/885012107016?ad; ComponentLink2Description: Datasheet Link; ComponentLink2URL: https://www.we-online.com/redexpert/spec/885012107016?ad; Mount: Surface Mount; Min Operating Temperature: -55°C; Max Operating Temperature: 85°C; Packaging: Tape and Reel; Length: 2mm; Width: 1.25mm; Height: 1.25mm; Capacitance: 2.2μF; Ceramic Type: X5R; Rated Voltage (DC): 25V
footprint WCAP-CSGP_0805_L2W1.25H1.25
simulation model 0805_885012107016_2.2uF
pins: 1, 2

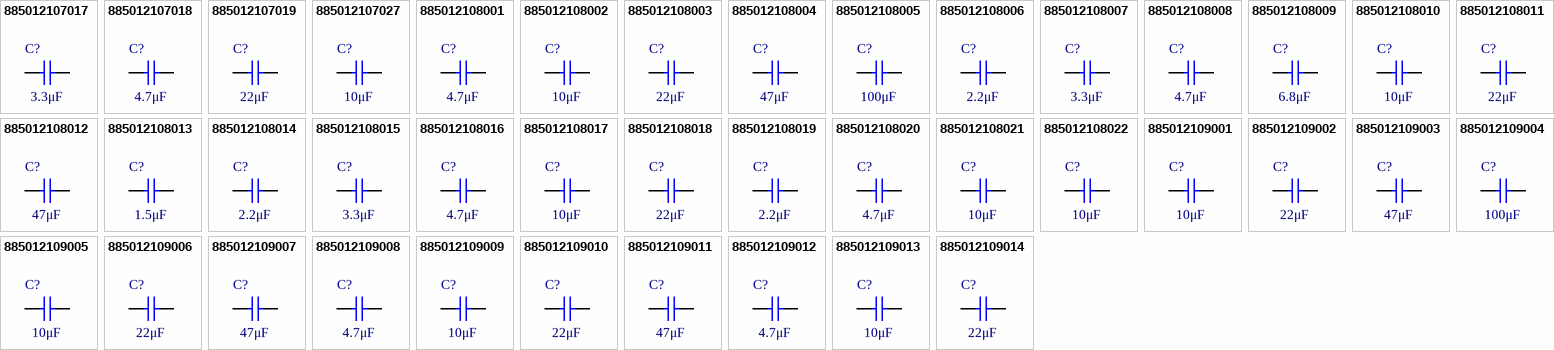
[diagram p11: symbols 885012107017 to 885012109014]

## 885012107017
designator C?, comment 3.3μF
WCAP-CSGP Multilayer Ceramic Chip Capacitor, General Purpose, size 0805, X5R, 3.3μF, 25V; Manufacturer Part Number: 885012107017; Manufacturer: Wurth Elektronik; Case/Size Code: 0805; Capacitance Tolerance: +/-20%; Dissipation Factor: 10%; Insulation Resistance: 0.03GΩ; Technical Reference: X5R0805335M025DFCT10000; Category: Multilayer Ceramic Chip Capacitors; Match Code: WCAP-CSGP; ComponentLink1Description: Website Link; ComponentLink1URL: https://www.we-online.com/redexpert/article/885012107017?ad; ComponentLink2Description: Datasheet Link; ComponentLink2URL: https://www.we-online.com/redexpert/spec/885012107017?ad; Mount: Surface Mount; Min Operating Temperature: -55°C; Max Operating Temperature: 85°C; Packaging: Tape and Reel; Length: 2mm; Width: 1.25mm; Height: 1.25mm; Capacitance: 3.3μF; Ceramic Type: X5R; Rated Voltage (DC): 25V
footprint WCAP-CSGP_0805_L2W1.25H1.25
simulation model 0805_885012107017_3.3uF
pins: 1, 2

## 885012107018
designator C?, comment 4.7μF
WCAP-CSGP Multilayer Ceramic Chip Capacitor, General Purpose, size 0805, X5R, 4.7μF, 25V; Manufacturer Part Number: 885012107018; Manufacturer: Wurth Elektronik; Case/Size Code: 0805; Capacitance Tolerance: +/-20%; Dissipation Factor: 10%; Insulation Resistance: 0.02GΩ; Technical Reference: X5R0805475M025DFCT10000; Category: Multilayer Ceramic Chip Capacitors; Match Code: WCAP-CSGP; ComponentLink1Description: Website Link; ComponentLink1URL: https://www.we-online.com/redexpert/article/885012107018?ad; ComponentLink2Description: Datasheet Link; ComponentLink2URL: https://www.we-online.com/redexpert/spec/885012107018?ad; Mount: Surface Mount; Min Operating Temperature: -55°C; Max Operating Temperature: 85°C; Packaging: Tape and Reel; Length: 2mm; Width: 1.25mm; Height: 1.25mm; Capacitance: 4.7μF; Ceramic Type: X5R; Rated Voltage (DC): 25V
footprint WCAP-CSGP_0805_L2W1.25H1.25
simulation model 0805_885012107018_4.7uF
pins: 1, 2

## 885012107019
designator C?, comment 22μF
WCAP-CSGP Multilayer Ceramic Chip Capacitor, General Purpose, size 0805, X5R Class II, 22μF, 25V; Manufacturer Part Number: 885012107019; Manufacturer: Wurth Elektronik; Case/Size Code: 0805; Capacitance Tolerance: +/-20%; Dissipation Factor: 10%; Insulation Resistance: 0.002GΩ; Technical Reference: X5R0805226M025DFCT10000; Category: Multilayer Ceramic Chip Capacitors; Match Code: WCAP-CSGP; ComponentLink1Description: Website Link; ComponentLink1URL: https://www.we-online.com/redexpert/article/885012107019?ad; ComponentLink2Description: Datasheet Link; ComponentLink2URL: https://www.we-online.com/redexpert/spec/885012107019?ad; Mount: Surface Mount; Min Operating Temperature: -55°C; Max Operating Temperature: 85°C; Packaging: Tape and Reel; Length: 2mm; Width: 1.25mm; Height: 1.25mm; Capacitance: 22μF; Ceramic Type: X5R Class II; Rated Voltage (DC): 25V
footprint WCAP-CSGP_0805_L2W1.25H1.25
pins: 1, 2

## 885012107027
designator C?, comment 10μF
WCAP-CSGP Multilayer Ceramic Chip Capacitor, General Purpose, size 0805, X5R Class II, 10μF, 25V; Manufacturer Part Number: 885012107027; Manufacturer: Wurth Elektronik; Case/Size Code: 0805; Capacitance Tolerance: +/-10%; Dissipation Factor: 12.5%; Insulation Resistance: 0.005GΩ; Technical Reference: X5R0805106K025DFCT10000; Category: Multilayer Ceramic Chip Capacitors; Match Code: WCAP-CSGP; ComponentLink1Description: Website Link; ComponentLink1URL: https://www.we-online.com/redexpert/article/885012107027?ad; ComponentLink2Description: Datasheet Link; ComponentLink2URL: https://www.we-online.com/redexpert/spec/885012107027?ad; Mount: Surface Mount; Min Operating Temperature: -55°C; Max Operating Temperature: 85°C; Packaging: Tape and Reel; Length: 2mm; Width: 1.25mm; Height: 1.25mm; Capacitance: 10μF; Ceramic Type: X5R Class II; Rated Voltage (DC): 25V
footprint WCAP-CSGP_0805_L2W1.25H1.25
pins: 1, 2

## 885012108001
designator C?, comment 4.7μF
WCAP-CSGP Multilayer Ceramic Chip Capacitor, General Purpose, size 1206, X5R, 4.7μF, 6.3V; Manufacturer Part Number: 885012108001; Manufacturer: Wurth Elektronik; Case/Size Code: 1206; Capacitance Tolerance: +/-20%; Dissipation Factor: 10%; Insulation Resistance: 0.02GΩ; Technical Reference: X5R1206475M6R3DFCT10000; Category: Multilayer Ceramic Chip Capacitors; Match Code: WCAP-CSGP; ComponentLink1Description: Website Link; ComponentLink1URL: https://www.we-online.com/redexpert/article/885012108001?ad; ComponentLink2Description: Datasheet Link; ComponentLink2URL: https://www.we-online.com/redexpert/spec/885012108001?ad; Mount: Surface Mount; Min Operating Temperature: -55°C; Max Operating Temperature: 85°C; Packaging: Tape and Reel; Length: 3.2mm; Width: 1.6mm; Height: 1.6mm; Capacitance: 4.7μF; Ceramic Type: X5R; Rated Voltage (DC): 6.3V
footprint WCAP-CSGP_1206_L3.2W1.6H1.6
simulation model 1206_885012108001_4.7uF
pins: 1, 2

## 885012108002
designator C?, comment 10μF
WCAP-CSGP Multilayer Ceramic Chip Capacitor, General Purpose, size 1206, X5R, 10μF, 6.3V; Manufacturer Part Number: 885012108002; Manufacturer: Wurth Elektronik; Case/Size Code: 1206; Capacitance Tolerance: +/-20%; Dissipation Factor: 10%; Insulation Resistance: 0.005GΩ; Technical Reference: X5R1206106M6R3DFCT10000; Category: Multilayer Ceramic Chip Capacitors; Match Code: WCAP-CSGP; ComponentLink1Description: Website Link; ComponentLink1URL: https://www.we-online.com/redexpert/article/885012108002?ad; ComponentLink2Description: Datasheet Link; ComponentLink2URL: https://www.we-online.com/redexpert/spec/885012108002?ad; Mount: Surface Mount; Min Operating Temperature: -55°C; Max Operating Temperature: 85°C; Packaging: Tape and Reel; Length: 3.2mm; Width: 1.6mm; Height: 1.6mm; Capacitance: 10μF; Ceramic Type: X5R; Rated Voltage (DC): 6.3V
footprint WCAP-CSGP_1206_L3.2W1.6H1.6
simulation model 1206_885012108002_10uF
pins: 1, 2

## 885012108003
designator C?, comment 22μF
WCAP-CSGP Multilayer Ceramic Chip Capacitor, General Purpose, size 1206, X5R, 22μF, 6.3V; Manufacturer Part Number: 885012108003; Manufacturer: Wurth Elektronik; Case/Size Code: 1206; Capacitance Tolerance: +/-20%; Dissipation Factor: 10%; Insulation Resistance: 0.002GΩ; Technical Reference: X5R1206226M6R3DFCT10000; Category: Multilayer Ceramic Chip Capacitors; Match Code: WCAP-CSGP; ComponentLink1Description: Website Link; ComponentLink1URL: https://www.we-online.com/redexpert/article/885012108003?ad; ComponentLink2Description: Datasheet Link; ComponentLink2URL: https://www.we-online.com/redexpert/spec/885012108003?ad; Mount: Surface Mount; Min Operating Temperature: -55°C; Max Operating Temperature: 85°C; Packaging: Tape and Reel; Length: 3.2mm; Width: 1.6mm; Height: 1.6mm; Capacitance: 22μF; Ceramic Type: X5R; Rated Voltage (DC): 6.3V
footprint WCAP-CSGP_1206_L3.2W1.6H1.6
simulation model 1206_885012108003_22uF
pins: 1, 2

## 885012108004
designator C?, comment 47μF
WCAP-CSGP Multilayer Ceramic Chip Capacitor, General Purpose, size 1206, X5R, 47μF, 6.3V; Manufacturer Part Number: 885012108004; Manufacturer: Wurth Elektronik; Case/Size Code: 1206; Capacitance Tolerance: +/-20%; Dissipation Factor: 10%; Insulation Resistance: 0.002GΩ; Technical Reference: X5R1206476M6R3DFCT10000; Category: Multilayer Ceramic Chip Capacitors; Match Code: WCAP-CSGP; ComponentLink1Description: Website Link; ComponentLink1URL: https://www.we-online.com/redexpert/article/885012108004?ad; ComponentLink2Description: Datasheet Link; ComponentLink2URL: https://www.we-online.com/redexpert/spec/885012108004?ad; Mount: Surface Mount; Min Operating Temperature: -55°C; Max Operating Temperature: 85°C; Packaging: Tape and Reel; Length: 3.2mm; Width: 1.6mm; Height: 1.6mm; Capacitance: 47μF; Ceramic Type: X5R; Rated Voltage (DC): 6.3V
footprint WCAP-CSGP_1206_L3.2W1.6H1.6
simulation model 1206_885012108004_47uF
pins: 1, 2